# Altium footprint library plug.PcbLib: 4 footprints
Each footprint in its own frame and in the unit in brackets; x right, y up, seen from the top. Pads: shape width x height; smd on the part's side, far side on the other; paste and mask are expansions set on the pad; w line width, h text height; cw(c..) or ccw(c..) is an arc to the next point about the centre after c.
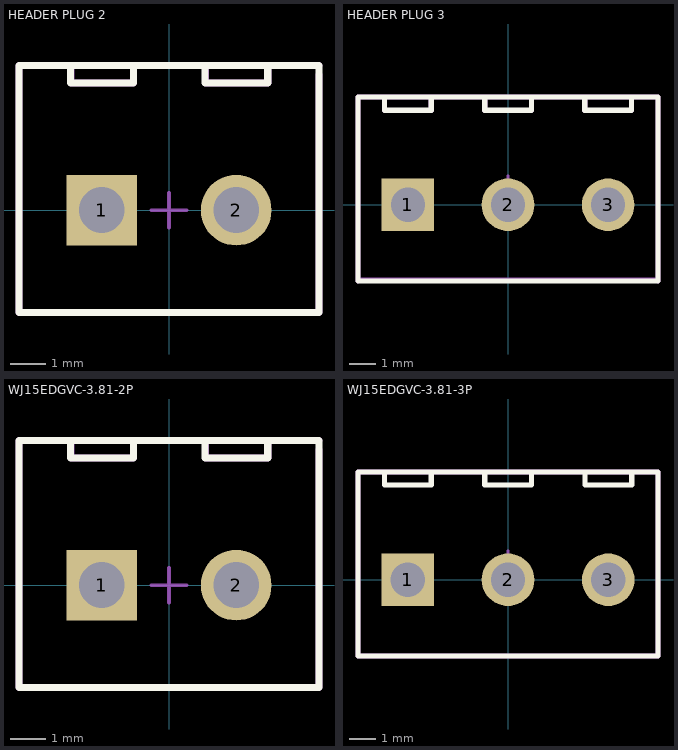
[diagram p0: the footprints below, top view; thin cyan lines are the x and y axes]

## HEADER PLUG 2 [mm] "Connector; Header; 2 Position"
pads (2):
  rect 2x2 hole 1.3 mask+0.15: 1(-1.905,0)
  round 2 hole 1.3 mask+0.15: 2(1.905,0)
Top Overlay:
  lines w0.2: -2.789,4.1 -2.789,3.6 -1.011,3.6 -1.011,4.1 ; 1.021,4.1 1.021,3.6 2.799,3.6 2.799,4.1 ; -4.25,-2.9 -4.25,4.1 -1.899,4.1 1.909,4.1 4.25,4.1 4.25,-2.9 -4.25,-2.9
Top Courtyard:
  lines w0.1: -0.5,0 0.5,0 ; 0,-0.5 0,0.5
  lines w0.2: -2.778,4.1 -2.778,3.6 -1,3.6 -1,4.1 ; 1.032,4.1 1.032,3.6 2.81,3.6 2.81,4.1 ; 4.25,3.85 4.25,2.1 4.25,-1.4 4.25,-2.9 1.904,-2.9 -1.904,-2.9 -4.25,-2.9 -4.25,-1.15 -4.25,2.35 -4.25,4.1 4.25,4.1
  text "'.Designator'" at -3.075,2.899 h0.5
3D body "1803426.stp": height 9.22, standoff -3.38, extent -4.485,-3.025 4.525,4.225

## HEADER PLUG 3 [mm] "Connector; Header; 3 Position"
pads (3):
  rect 2x2 hole 1.3 mask+0.15: 1(-3.81,0)
  round 2 hole 1.3 mask+0.15: 2(0,0) 3(3.81,0)
Top Overlay:
  lines w0.2: -5.71,4.037 -5.71,-2.9 5.71,-2.9 5.71,4.1 -5.71,4.1 ; -4.697,4.1 -4.697,3.6 -2.919,3.6 -2.919,4.1 ; -0.887,4.1 -0.887,3.6 0.891,3.6 0.891,4.1 ; 2.923,4.1 2.923,3.6 4.701,3.6 4.701,4.1
Top Courtyard:
  lines w0.1: -0.5,0.6 0.5,0.6 ; 0,0.1 0,1.1
  lines w0.2: -5.71,-2.9 -5.71,4.1 -2.855,4.1 2.855,4.1 5.71,4.1 5.71,-2.9 ; -5.71,-2.875 -2.855,-2.875 2.855,-2.875 5.71,-2.875 ; -4.697,3.6 -4.697,4.1 -2.919,4.1 -2.919,3.6 ; -0.887,3.6 -0.887,4.1 0.891,4.1 0.891,3.6 ; 2.923,3.6 2.923,4.1 4.701,4.1 4.701,3.6
  text "'.Designator'" at -2.313,2.645 h0.5
3D body "SENSOR3.stp": height 3, standoff -9.7, extent -6.32,-3.1 6.3,4.1

## WJ15EDGVC-3.81-2P [mm] "Connector; Header; 2 Position"
pads (2):
  rect 2x2 hole 1.3 mask+0.15: 1(-1.905,0)
  round 2 hole 1.3 mask+0.15: 2(1.905,0)
Top Overlay:
  lines w0.2: -2.789,4.1 -2.789,3.6 -1.011,3.6 -1.011,4.1 ; 1.021,4.1 1.021,3.6 2.799,3.6 2.799,4.1 ; -4.25,-2.9 4.25,-2.9 4.25,4.1 1.909,4.1 -1.899,4.1 -4.25,4.1 -4.25,-2.9
Top Courtyard:
  lines w0.1: -0.5,0 0.5,0 ; 0,-0.5 0,0.5
  lines w0.2: -2.778,4.1 -2.778,3.6 -1,3.6 -1,4.1 ; 1.032,4.1 1.032,3.6 2.81,3.6 2.81,4.1 ; 4.25,3.85 4.25,2.1 4.25,-1.4 4.25,-2.9 1.904,-2.9 -1.904,-2.9 -4.25,-2.9 -4.25,-1.15 -4.25,2.35 -4.25,4.1 4.25,4.1
  text "'.Designator'" at -3.075,2.899 h0.5
3D body "1803426.stp": height 9.22, standoff -3.38, extent -4.485,-3.025 4.525,4.225

## WJ15EDGVC-3.81-3P [mm] "Connector; Header; 3 Position"
pads (3):
  rect 2x2 hole 1.3 mask+0.15: 1(-3.81,0)
  round 2 hole 1.3 mask+0.15: 2(0,0) 3(3.81,0)
Top Overlay:
  lines w0.2: -4.697,4.1 -4.697,3.6 -2.919,3.6 -2.919,4.1 ; -0.887,4.1 -0.887,3.6 0.891,3.6 0.891,4.1 ; 2.923,4.1 2.923,3.6 4.701,3.6 4.701,4.1 ; -5.7,-2.9 -5.7,4.1 5.7,4.1 5.7,4 5.7,-2.9 -5.7,-2.9
Top Courtyard:
  lines w0.1: -0.5,0.6 0.5,0.6 ; 0,0.1 0,1.1
  lines w0.2: -0.887,4.1 0.891,4.1 ; -5.7,-2.9 5.7,-2.9 5.7,4.1 -5.7,4.1 -5.7,-2.9
  text "'.Designator'" at -2.313,2.645 h0.5
3D body "SENSOR3.stp": height 3, standoff -9.7, extent -6.32,-3 6.3,4.2